# Altium integrated library ATmega32_ComServ.IntLib: 43 symbols
Pins are listed as number, name and electrical type; pins without a type are passive.

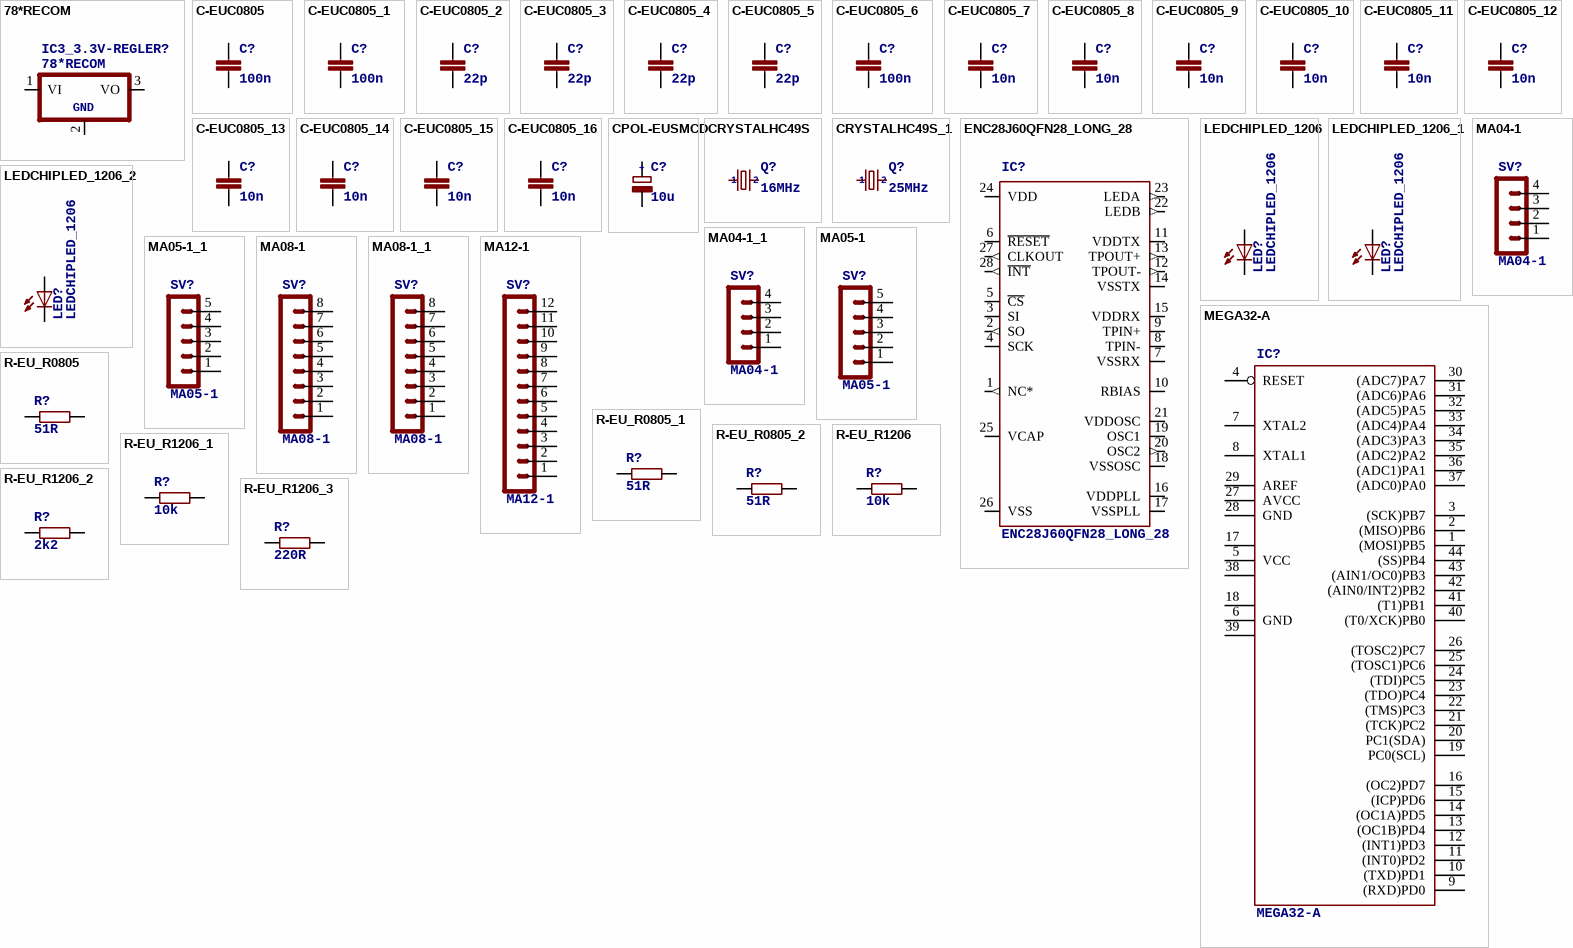
[diagram p0: symbols 78*RECOM to R-EU_R1206_3]

## 78*RECOM
designator IC3_3.3V-REGLER?
Positive <b>VOLTAGE REGULATOR</b><p> / Source:<br> / http://cache.national.com/ds/LM/LM78L05.pdf<br> / http://www.fairchildsemi.com/ds/LM/LM7805.pdf; GND: GND
footprint RECOM_3POL
pins: 1 VI, 2 GND, 3 VO

## C-EUC0805
designator C?, comment 100n
<B>CAPACITOR</B>, European symbol
footprint C0805
pins: 1, 2

## C-EUC0805_1
designator C?, comment 100n
<B>CAPACITOR</B>, European symbol
footprint C0805
pins: 1, 2

## C-EUC0805_2
designator C?, comment 22p
<B>CAPACITOR</B>, European symbol
footprint C0805
pins: 1, 2

## C-EUC0805_3
designator C?, comment 22p
<B>CAPACITOR</B>, European symbol
footprint C0805
pins: 1, 2

## C-EUC0805_4
designator C?, comment 22p
<B>CAPACITOR</B>, European symbol
footprint C0805
pins: 1, 2

## C-EUC0805_5
designator C?, comment 22p
<B>CAPACITOR</B>, European symbol
footprint C0805
pins: 1, 2

## C-EUC0805_6
designator C?, comment 100n
<B>CAPACITOR</B>, European symbol
footprint C0805
pins: 1, 2

## C-EUC0805_7
designator C?, comment 10n
<B>CAPACITOR</B>, European symbol
footprint C0805
pins: 1, 2

## C-EUC0805_8
designator C?, comment 10n
<B>CAPACITOR</B>, European symbol
footprint C0805
pins: 1, 2

## C-EUC0805_9
designator C?, comment 10n
<B>CAPACITOR</B>, European symbol
footprint C0805
pins: 1, 2

## C-EUC0805_10
designator C?, comment 10n
<B>CAPACITOR</B>, European symbol
footprint C0805
pins: 1, 2

## C-EUC0805_11
designator C?, comment 10n
<B>CAPACITOR</B>, European symbol
footprint C0805
pins: 1, 2

## C-EUC0805_12
designator C?, comment 10n
<B>CAPACITOR</B>, European symbol
footprint C0805
pins: 1, 2

## C-EUC0805_13
designator C?, comment 10n
<B>CAPACITOR</B>, European symbol
footprint C0805
pins: 1, 2

## C-EUC0805_14
designator C?, comment 10n
<B>CAPACITOR</B>, European symbol
footprint C0805
pins: 1, 2

## C-EUC0805_15
designator C?, comment 10n
<B>CAPACITOR</B>, European symbol
footprint C0805
pins: 1, 2

## C-EUC0805_16
designator C?, comment 10n
<B>CAPACITOR</B>, European symbol
footprint C0805
pins: 1, 2

## CPOL-EUSMCD
designator C?, comment 10u
<B>POLARIZED CAPACITOR</B>, European symbol; +: +
footprint SMC_D
pins: +, -

## CRYSTALHC49S
designator Q?, comment 16MHz
<b>CRYSTAL</b>; 1: 1; 2: 2
footprint HC49/S
pins: 1, 2

## CRYSTALHC49S_1
designator Q?, comment 25MHz
<b>CRYSTAL</b>; 1: 1; 2: 2
footprint HC49/S
pins: 1, 2

## ENC28J60QFN28_LONG_28
designator IC?
<b>Stand-Alone Ethernet Controller with SPI Interface</b><p> / Source: http://ww1.microchip.com/downloads/en/DeviceDoc/39662c.pdf
footprint QFN28_LONG_ERRLES
pins: 1 NC* (out), 2 SO (out), 3 SI, 4 SCK, 5 ~{CS}, 6 ~{RESET}, 7 VSSRX, 8 TPIN-, 9 TPIN+, 10 RBIAS, 11 VDDTX, 12 TPOUT- (out), 13 TPOUT+ (out), 14 VSSTX, 15 VDDRX, 16 VDDPLL, 17 VSSPLL, 18 VSSOSC, 19 OSC1, 20 OSC2 (out), 21 VDDOSC, 22 LEDB (out), 23 LEDA (out), 24 VDD, 25 VCAP, 26 VSS, 27 CLKOUT (out), 28 ~{INT} (out)

## LEDCHIPLED_1206
designator LED?
<b>LED</b><p> / <u>OSRAM</u>:<br> / - <u>CHIPLED</u><br> / LG R971, LG N971, LY N971, LG Q971, LY Q971, LO R971, LY R971 / LH N974, LH R974<br> / LS Q976, LO Q976, LY Q976<br> / LO Q996<br> / - <u>Hyper CHIPLED</u><br> / LW Q18S<br> / LB Q993, LB Q99A, LB R99A<br> / - <u>SideLED</u><br> / LS A670, LO A670, LY A670, LG A670, LP A670<br> / LB A673, LV A673, LT A673, LW A673<br> / LH A674<br> / LY A675<br> / LS A676, LA A676, LO A676, LY A676, LW A676<br> / LS A679, LY A679, LG A679<br> / -  <u>Hyper Micro SIDELED®</u><br> / LS Y876, LA Y876, LO Y876, LY Y876<br> / LT Y87S<br> / - <u>SmartLED</u><br> / LW L88C, LW L88S<br> / LB L89C, LB L89S, LG L890<br> / LS L89K, LO L89K, LY L89K<br> / LS L896, LA L896, LO L896, LY L896<br> / - <u>TOPLED</u><br> / LS T670, LO T670, LY T670, LG T670, LP T670<br> / LSG T670, LSP T670, LSY T670, LOP T670, LYG T670<br> / LG T671, LOG T671, LSG T671<br> / LB T673, LV T673, LT T673, LW T673<br> / LH T674<br> / LS T676, LA T676, LO T676, LY T676, LB T676, LH T676, LSB T676, LW T676<br> / LB T67C, LV T67C, LT T67C, LS T67K, LO T67K, LY T67K, LW E67C<br> / LS E67B, LA E67B, LO E67B, LY E67B, LB E67C, LV E67C, LT E67C<br> / LW T67C<br> / LS T679, LY T679, LG T679<br> / LS T770, LO T770, LY T770, LG T770, LP T770<br> / LB T773, LV T773, LT T773, LW T773<br> / LH T774<br> / LS E675, LA E675, LY E675, LS T675<br> / LS T776, LA T776, LO T776, LY T776, LB T776<br> / LHGB T686<br> / LT T68C, LB T68C<br> / - <u>Hyper Mini TOPLED®</u><br> / LB M676<br> / - <u>Mini TOPLED Santana®</u><br> / LG M470<br> / LS M47K, LO M47K, LY M47K / <p> / Source: http://www.osram.convergy.de<p> / <u>LUXEON:</u><br> / - <u>LUMILED®</u><br> / LXK2-PW12-R00, LXK2-PW12-S00, LXK2-PW14-U00, LXK2-PW14-V00<br> / LXK2-PM12-R00, LXK2-PM12-S00, LXK2-PM14-U00<br> / LXK2-PE12-Q00, LXK2-PE12-R00, LXK2-PE12-S00, LXK2-PE14-T00, LXK2-PE14-U00<br> / LXK2-PB12-K00, LXK2-PB12-L00, LXK2-PB12-M00, LXK2-PB14-N00, LXK2-PB14-P00, LXK2-PB14-Q00<br> / LXK2-PR12-L00, LXK2-PR12-M00, LXK2-PR14-Q00, LXK2-PR14-R00<br> / LXK2-PD12-Q00, LXK2-PD12-R00, LXK2-PD12-S00<br> / LXK2-PH12-R00, LXK2-PH12-S00<br> / LXK2-PL12-P00, LXK2-PL12-Q00, LXK2-PL12-R00 / <p> / Source: www.luxeon.com<p> / <u>KINGBRIGHT:</U><p> / KA-3528ASYC<br> / Source: www.kingbright.com
footprint CHIPLED_1206
pins: A, C

## LEDCHIPLED_1206_1
designator LED?, comment LEDCHIPLED_1206
<b>LED</b><p> / <u>OSRAM</u>:<br> / - <u>CHIPLED</u><br> / LG R971, LG N971, LY N971, LG Q971, LY Q971, LO R971, LY R971 / LH N974, LH R974<br> / LS Q976, LO Q976, LY Q976<br> / LO Q996<br> / - <u>Hyper CHIPLED</u><br> / LW Q18S<br> / LB Q993, LB Q99A, LB R99A<br> / - <u>SideLED</u><br> / LS A670, LO A670, LY A670, LG A670, LP A670<br> / LB A673, LV A673, LT A673, LW A673<br> / LH A674<br> / LY A675<br> / LS A676, LA A676, LO A676, LY A676, LW A676<br> / LS A679, LY A679, LG A679<br> / -  <u>Hyper Micro SIDELED®</u><br> / LS Y876, LA Y876, LO Y876, LY Y876<br> / LT Y87S<br> / - <u>SmartLED</u><br> / LW L88C, LW L88S<br> / LB L89C, LB L89S, LG L890<br> / LS L89K, LO L89K, LY L89K<br> / LS L896, LA L896, LO L896, LY L896<br> / - <u>TOPLED</u><br> / LS T670, LO T670, LY T670, LG T670, LP T670<br> / LSG T670, LSP T670, LSY T670, LOP T670, LYG T670<br> / LG T671, LOG T671, LSG T671<br> / LB T673, LV T673, LT T673, LW T673<br> / LH T674<br> / LS T676, LA T676, LO T676, LY T676, LB T676, LH T676, LSB T676, LW T676<br> / LB T67C, LV T67C, LT T67C, LS T67K, LO T67K, LY T67K, LW E67C<br> / LS E67B, LA E67B, LO E67B, LY E67B, LB E67C, LV E67C, LT E67C<br> / LW T67C<br> / LS T679, LY T679, LG T679<br> / LS T770, LO T770, LY T770, LG T770, LP T770<br> / LB T773, LV T773, LT T773, LW T773<br> / LH T774<br> / LS E675, LA E675, LY E675, LS T675<br> / LS T776, LA T776, LO T776, LY T776, LB T776<br> / LHGB T686<br> / LT T68C, LB T68C<br> / - <u>Hyper Mini TOPLED®</u><br> / LB M676<br> / - <u>Mini TOPLED Santana®</u><br> / LG M470<br> / LS M47K, LO M47K, LY M47K / <p> / Source: http://www.osram.convergy.de<p> / <u>LUXEON:</u><br> / - <u>LUMILED®</u><br> / LXK2-PW12-R00, LXK2-PW12-S00, LXK2-PW14-U00, LXK2-PW14-V00<br> / LXK2-PM12-R00, LXK2-PM12-S00, LXK2-PM14-U00<br> / LXK2-PE12-Q00, LXK2-PE12-R00, LXK2-PE12-S00, LXK2-PE14-T00, LXK2-PE14-U00<br> / LXK2-PB12-K00, LXK2-PB12-L00, LXK2-PB12-M00, LXK2-PB14-N00, LXK2-PB14-P00, LXK2-PB14-Q00<br> / LXK2-PR12-L00, LXK2-PR12-M00, LXK2-PR14-Q00, LXK2-PR14-R00<br> / LXK2-PD12-Q00, LXK2-PD12-R00, LXK2-PD12-S00<br> / LXK2-PH12-R00, LXK2-PH12-S00<br> / LXK2-PL12-P00, LXK2-PL12-Q00, LXK2-PL12-R00 / <p> / Source: www.luxeon.com<p> / <u>KINGBRIGHT:</U><p> / KA-3528ASYC<br> / Source: www.kingbright.com
footprint CHIPLED_1206
pins: A, C

## LEDCHIPLED_1206_2
designator LED?, comment LEDCHIPLED_1206
<b>LED</b><p> / <u>OSRAM</u>:<br> / - <u>CHIPLED</u><br> / LG R971, LG N971, LY N971, LG Q971, LY Q971, LO R971, LY R971 / LH N974, LH R974<br> / LS Q976, LO Q976, LY Q976<br> / LO Q996<br> / - <u>Hyper CHIPLED</u><br> / LW Q18S<br> / LB Q993, LB Q99A, LB R99A<br> / - <u>SideLED</u><br> / LS A670, LO A670, LY A670, LG A670, LP A670<br> / LB A673, LV A673, LT A673, LW A673<br> / LH A674<br> / LY A675<br> / LS A676, LA A676, LO A676, LY A676, LW A676<br> / LS A679, LY A679, LG A679<br> / -  <u>Hyper Micro SIDELED®</u><br> / LS Y876, LA Y876, LO Y876, LY Y876<br> / LT Y87S<br> / - <u>SmartLED</u><br> / LW L88C, LW L88S<br> / LB L89C, LB L89S, LG L890<br> / LS L89K, LO L89K, LY L89K<br> / LS L896, LA L896, LO L896, LY L896<br> / - <u>TOPLED</u><br> / LS T670, LO T670, LY T670, LG T670, LP T670<br> / LSG T670, LSP T670, LSY T670, LOP T670, LYG T670<br> / LG T671, LOG T671, LSG T671<br> / LB T673, LV T673, LT T673, LW T673<br> / LH T674<br> / LS T676, LA T676, LO T676, LY T676, LB T676, LH T676, LSB T676, LW T676<br> / LB T67C, LV T67C, LT T67C, LS T67K, LO T67K, LY T67K, LW E67C<br> / LS E67B, LA E67B, LO E67B, LY E67B, LB E67C, LV E67C, LT E67C<br> / LW T67C<br> / LS T679, LY T679, LG T679<br> / LS T770, LO T770, LY T770, LG T770, LP T770<br> / LB T773, LV T773, LT T773, LW T773<br> / LH T774<br> / LS E675, LA E675, LY E675, LS T675<br> / LS T776, LA T776, LO T776, LY T776, LB T776<br> / LHGB T686<br> / LT T68C, LB T68C<br> / - <u>Hyper Mini TOPLED®</u><br> / LB M676<br> / - <u>Mini TOPLED Santana®</u><br> / LG M470<br> / LS M47K, LO M47K, LY M47K / <p> / Source: http://www.osram.convergy.de<p> / <u>LUXEON:</u><br> / - <u>LUMILED®</u><br> / LXK2-PW12-R00, LXK2-PW12-S00, LXK2-PW14-U00, LXK2-PW14-V00<br> / LXK2-PM12-R00, LXK2-PM12-S00, LXK2-PM14-U00<br> / LXK2-PE12-Q00, LXK2-PE12-R00, LXK2-PE12-S00, LXK2-PE14-T00, LXK2-PE14-U00<br> / LXK2-PB12-K00, LXK2-PB12-L00, LXK2-PB12-M00, LXK2-PB14-N00, LXK2-PB14-P00, LXK2-PB14-Q00<br> / LXK2-PR12-L00, LXK2-PR12-M00, LXK2-PR14-Q00, LXK2-PR14-R00<br> / LXK2-PD12-Q00, LXK2-PD12-R00, LXK2-PD12-S00<br> / LXK2-PH12-R00, LXK2-PH12-S00<br> / LXK2-PL12-P00, LXK2-PL12-Q00, LXK2-PL12-R00 / <p> / Source: www.luxeon.com<p> / <u>KINGBRIGHT:</U><p> / KA-3528ASYC<br> / Source: www.kingbright.com
footprint CHIPLED_1206
pins: A, C

## MA04-1
designator SV?
<b>PIN HEADER</b>
footprint MA04-1
pins: 1, 2, 3, 4

## MA04-1_1
designator SV?, comment MA04-1
<b>PIN HEADER</b>
footprint MA04-1
pins: 1, 2, 3, 4

## MA05-1
designator SV?
<b>PIN HEADER</b>
footprint MA05-1
pins: 1, 2, 3, 4, 5

## MA05-1_1
designator SV?, comment MA05-1
<b>PIN HEADER</b>
footprint MA05-1
pins: 1, 2, 3, 4, 5

## MA08-1
designator SV?
<b>PIN HEADER</b>
footprint MA08-1
pins: 1, 2, 3, 4, 5, 6, 7, 8

## MA08-1_1
designator SV?, comment MA08-1
<b>PIN HEADER</b>
footprint MA08-1
pins: 1, 2, 3, 4, 5, 6, 7, 8

## MA12-1
designator SV?
<b>PIN HEADER</b>
footprint MA12-1
pins: 1, 2, 3, 4, 5, 6, 7, 8, 9, 10, 11, 12

## MEGA32-A
designator IC?
<b>MICROCONTROLLER</b><p> / 32 Kbytes FLASH<br> / 2 Kbytes SRAM<br> / 1 Kbytes EEPROM<br> / USART<br> / 8-channel 10 bit ADC<br> / Source: www.atmel.com .. doc2503.pdf
footprint TQFP44
pins: 1 (MOSI)PB5, 2 (MISO)PB6, 3 (SCK)PB7, 4 RESET, 5 VCC (power), 6 GND (power), 7 XTAL2, 8 XTAL1, 9 (RXD)PD0, 10 (TXD)PD1, 11 (INT0)PD2, 12 (INT1)PD3, 13 (OC1B)PD4, 14 (OC1A)PD5, 15 (ICP)PD6, 16 (OC2)PD7, 17 VCC1 (power), 18 GND1 (power), 19 PC0(SCL), 20 PC1(SDA), 21 (TCK)PC2, 22 (TMS)PC3, 23 (TDO)PC4, 24 (TDI)PC5, 25 (TOSC1)PC6, 26 (TOSC2)PC7, 27 AVCC (power), 28 GND (power), 29 AREF, 30 (ADC7)PA7, 31 (ADC6)PA6, 32 (ADC5)PA5, 33 (ADC4)PA4, 34 (ADC3)PA3, 35 (ADC2)PA2, 36 (ADC1)PA1, 37 (ADC0)PA0, 38 VCC2 (power), 39 GND2 (power), 40 (T0/XCK)PB0, 41 (T1)PB1, 42 (AIN0/INT2)PB2, 43 (AIN1/OC0)PB3, 44 (SS)PB4

## R-EU_R0805
designator R?, comment 51R
<B>RESISTOR</B>, European symbol
footprint R0805
pins: 1, 2

## R-EU_R0805_1
designator R?, comment 51R
<B>RESISTOR</B>, European symbol
footprint R0805
pins: 1, 2

## R-EU_R0805_2
designator R?, comment 51R
<B>RESISTOR</B>, European symbol
footprint R0805
pins: 1, 2

## R-EU_R1206
designator R?, comment 10k
<B>RESISTOR</B>, European symbol
footprint R1206
pins: 1, 2

## R-EU_R1206_1
designator R?, comment 10k
<B>RESISTOR</B>, European symbol
footprint R1206
pins: 1, 2

## R-EU_R1206_2
designator R?, comment 2k2
<B>RESISTOR</B>, European symbol
footprint R1206
pins: 1, 2

## R-EU_R1206_3
designator R?, comment 220R
<B>RESISTOR</B>, European symbol
footprint R1206
pins: 1, 2

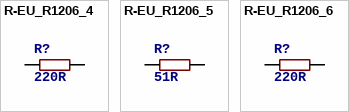
[diagram p1: symbols R-EU_R1206_4 to R-EU_R1206_6]

## R-EU_R1206_4
designator R?, comment 220R
<B>RESISTOR</B>, European symbol
footprint R1206
pins: 1, 2

## R-EU_R1206_5
designator R?, comment 51R
<B>RESISTOR</B>, European symbol
footprint R1206
pins: 1, 2

## R-EU_R1206_6
designator R?, comment 220R
<B>RESISTOR</B>, European symbol
footprint R1206
pins: 1, 2